# Altium schematic symbol library DRV8300DPWR.SchLib: 1 symbol
Pins are listed as number, name and electrical type; pins without a type are passive.

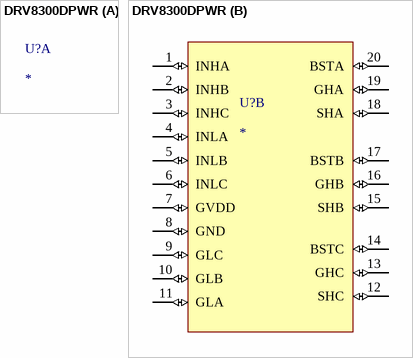
[diagram p0: symbol DRV8300DPWR]

## DRV8300DPWR
designator U?
footprint SOP65P640X120-20N
part B pins: 1 INHA (io), 2 INHB (io), 3 INHC (io), 4 INLA (io), 5 INLB (io), 6 INLC (io), 7 GVDD (io), 8 GND (io), 9 GLC (io), 10 GLB (io), 11 GLA (io), 12 SHC (io), 13 GHC (io), 14 BSTC (io), 15 SHB (io), 16 GHB (io), 17 BSTB (io), 18 SHA (io), 19 GHA (io), 20 BSTA (io)